# EAGLE library part OPAMP (library OPAMP)
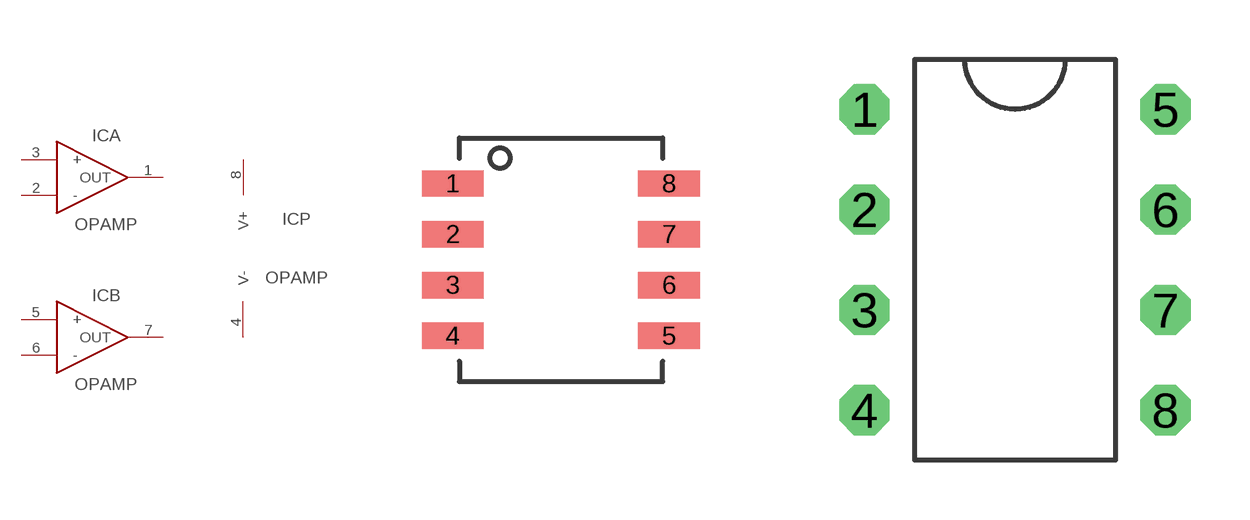
[diagram p0: symbol with the pads of SOP8; footprints SOP8, DIP8]

Designator prefix IC; gates A=OPAMP B=OPAMP P=PPINS

## OPAMPSOP8  [SOP8]
1  A:OUT  out
2  A:-  in
3  A:+  in
4  P:V-  pwr
5  B:+  in
6  B:-  in
7  B:OUT  out
8  P:V+  pwr

## OPAMPDIP8  [DIP8]
Pads as for SOP8

## Footprint SOP8 (pad centres in mm)
smd 1.549 x 0.66: 1 -2.705,1.905; 2 -2.705,0.635; 3 -2.705,-0.635; 4 -2.705,-1.905; 5 2.705,-1.905; 6 2.705,-0.635; 7 2.705,0.635; 8 2.705,1.905

## Footprint DIP8 (pad centres in mm)
drill 0.6 pad 1.27 octagon: 1 -3.81,3.81; 2 -3.81,1.27; 3 -3.81,-1.27; 4 -3.81,-3.81; 5 3.81,3.81; 6 3.81,1.27; 7 3.81,-1.27; 8 3.81,-3.81